# EAGLE library part P82B96 (library philips_I2C_repeaters-hubs-expanders)
Dual bi-directional bus buffer The P82B96 has two identical buffers allowing buffering of both of the I2C (SDA and SCL) signals. Each buffer is made up of two logic signal paths, a forward path from the I2C interface pin which drives the buffered bus, and a reverse signal path from the buffered bus input to drive the I2C-bus interface.
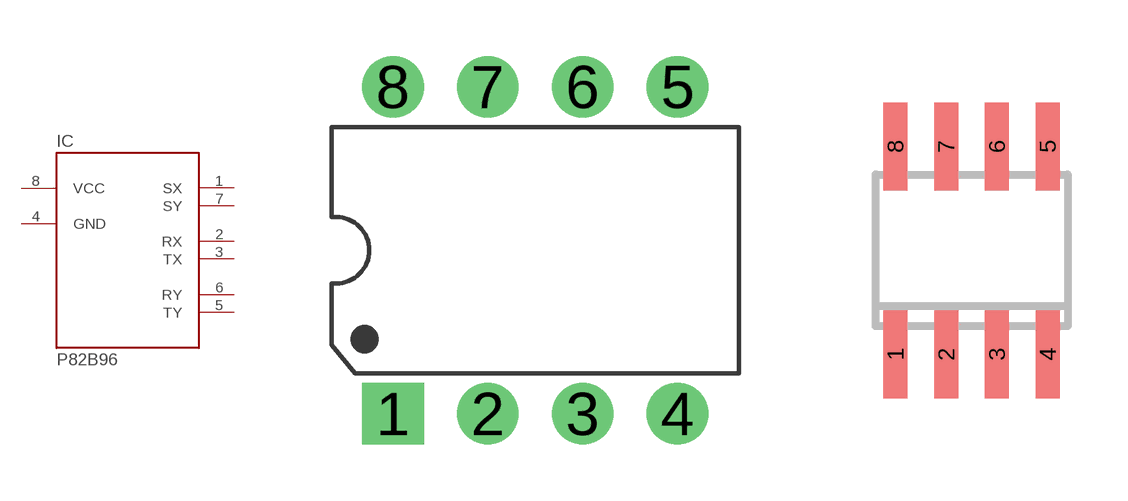
[diagram p6: symbol with the pads of DIP8; footprints DIP8, SO8]

Designator prefix IC

## P82B96PN  [DIP8]
1  SX
2  RX  in
3  TX  out
4  GND  pwr
5  TY  out
6  RY  in
7  SY
8  VCC  pwr

## P82B96TD  [SO8]
Pads as for DIP8

## P82B96DP  [TSSOP8]
Pads as for DIP8

## Footprint DIP8 (pad centres in mm)
drill 0.889 pad 1.651 square: 1 -3.81,-4.381
drill 0.889 pad 1.651: 2 -1.27,-4.381; 3 1.27,-4.381; 4 3.81,-4.381; 5 3.81,4.381; 6 1.27,4.381; 7 -1.27,4.381; 8 -3.81,4.381

## Footprint SO8 (pad centres in mm)
SMALL OUTLINE INTEGRATED CIRCUIT
smd 0.6 x 2.2: 1 -1.905,-2.6; 2 -0.635,-2.6; 3 0.635,-2.6; 4 1.905,-2.6; 5 1.905,2.6; 6 0.635,2.6; 7 -0.635,2.6; 8 -1.905,2.6

## Footprint TSSOP8 (pad centres in mm)
Plastic Small Outline
smd 1.2 x 0.35: 1 -2.925,0.975; 2 -2.925,0.325; 3 -2.925,-0.325; 4 -2.925,-0.975; 5 2.925,-0.975; 6 2.925,-0.325; 7 2.925,0.325; 8 2.925,0.975